# EAGLE library part 662020231822 (library Wuerth_Elektronik_eiCan_Wire_to_Board_Connectors)
WR-MPC3 3.00mm Male Dual Row SMT Vertical Header with SMT Fitting Nail, 20 Pins=>Code : Con_WTB_MPC3_2_PCB_SMT_662020231822 <http://katalog.we-online.de/media/thumbs2/eican/thb_Con_WTB_MPC3_2_PCB_SMT_6620xx231822_pf2.jpg> Details see: http://katalog.we-online.de/en/em/662_0xx_231_822 Created 2014-06-06, Karrer Zheng 2014 (C) Würth Elektronik
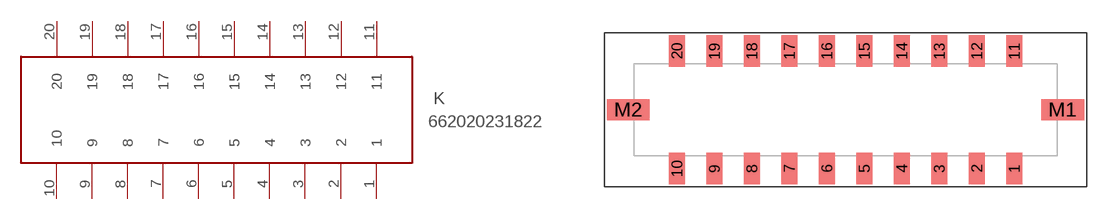
[diagram p392: symbol with the pads of 662020231822; footprint 662020231822]

Designator prefix K

## 662020231822  [662020231822]
1  1
2  2
3  3
4  4
5  5
6  6
7  7
8  8
9  9
10  10
11  11
12  12
13  13
14  14
15  15
16  16
17  17
18  18
19  19
20  20

## Footprint 662020231822 (pad centres in mm)
WR-MPC3 3.00mm Male Dual Row SMT Vertical Header with SMT Fitting Nail, 20 Pins
smd 1.27 x 2.54: 1 0,-4.7; 2 -3,-4.7; 3 -6,-4.7; 4 -9,-4.7; 5 -12,-4.7; 6 -15,-4.7; 7 -18,-4.7; 8 -21,-4.7; 9 -24,-4.7; 10 -27,-4.7; 11 0,4.7; 12 -3,4.7; 13 -6,4.7; 14 -9,4.7; 15 -12,4.7; 16 -15,4.7; 17 -18,4.7; 18 -21,4.7; 19 -24,4.7; 20 -27,4.7
smd 3.43 x 1.65: M1 3.865,0; M2 -30.895,0